# Altium footprint library PcbLib final.PcbLib: 22 footprints (part 1 of 2)
Each footprint in its own frame and in the unit in brackets; x right, y up, seen from the top. Pads: shape width x height; smd on the part's side, far side on the other; paste and mask are expansions set on the pad; w line width, h text height; cw(c..) or ccw(c..) is an arc to the next point about the centre after c.
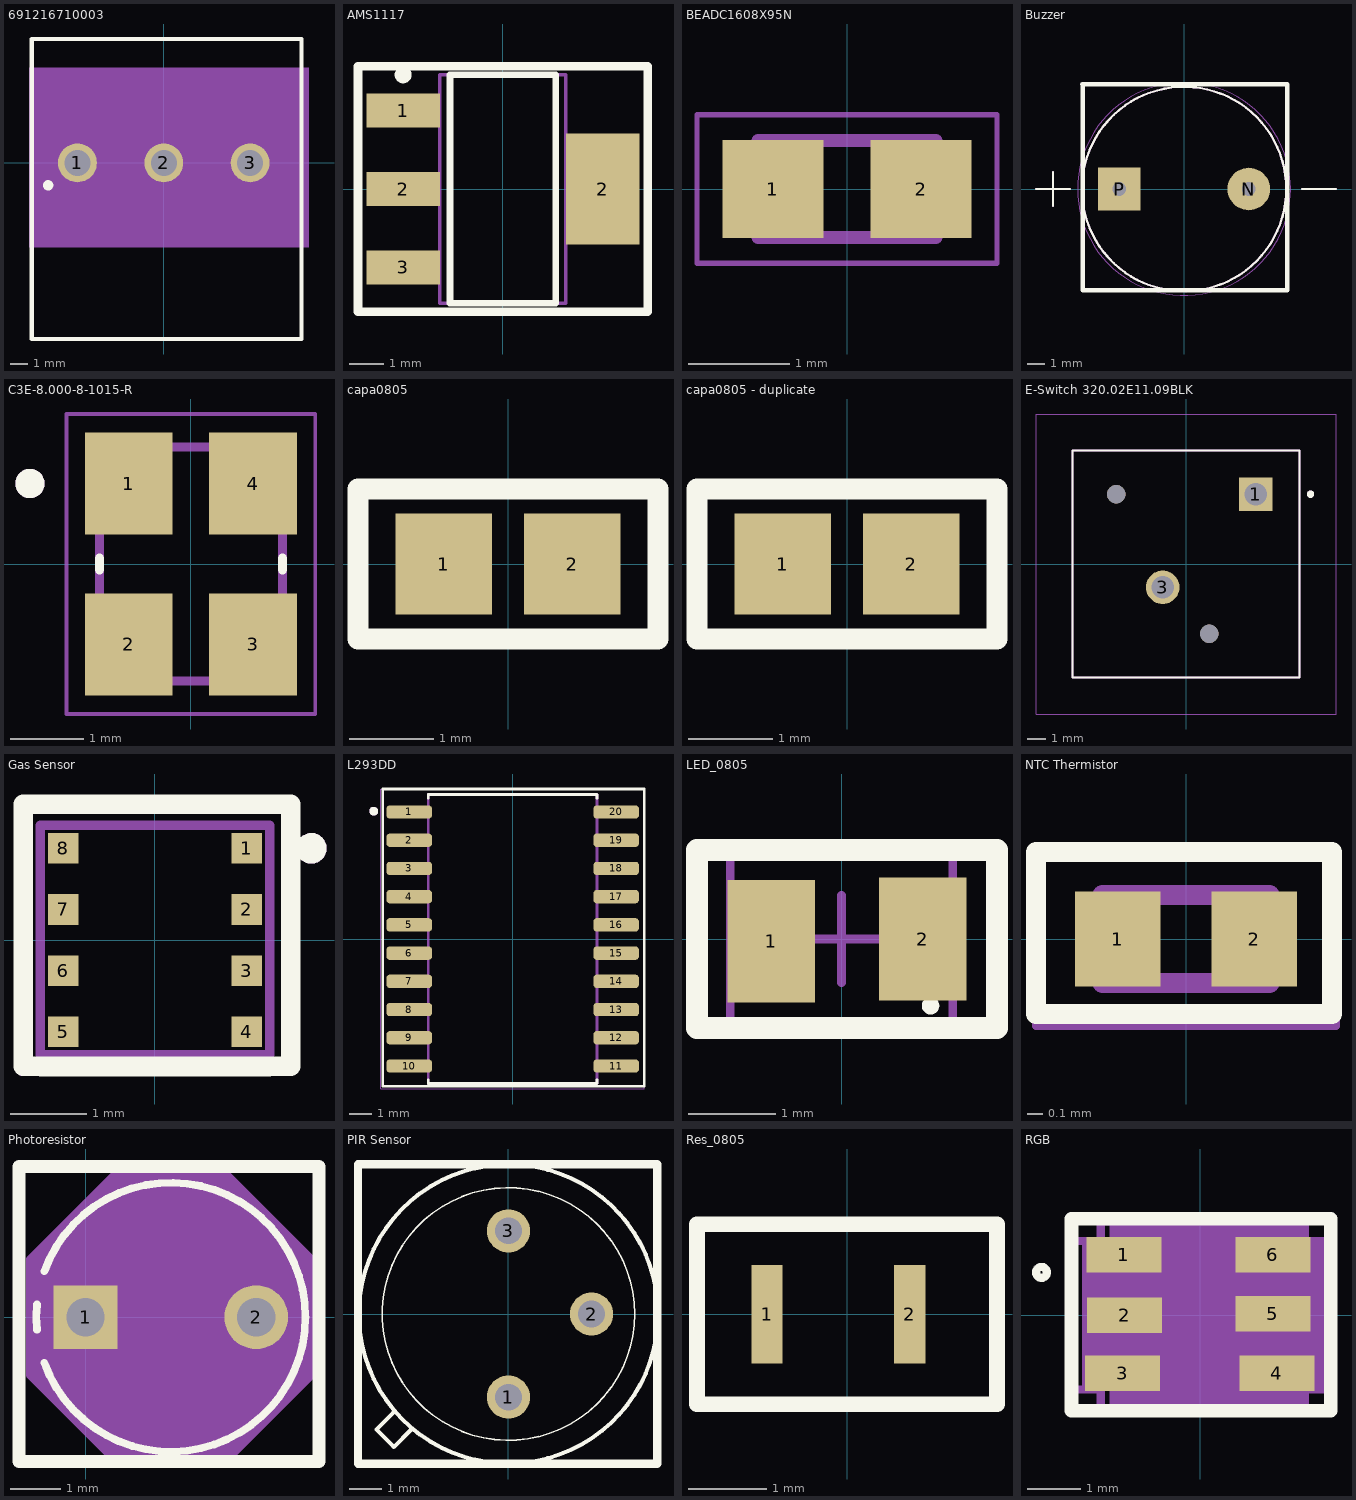
[diagram p0: the footprints below, top view; thin cyan lines are the x and y axes]

## 691216710003 [mm]
pads (3):
  round 2.25 hole 1.5: 1(-5,0) 2(0,0) 3(5,0)
Top Overlay:
  circle w0.4: c-6.7,-1.3 r0.1
  lines w0.254: -7.65,-10.2 -7.65,7.175 7.975,7.175 7.975,-9.975 7.975,-10.2 -7.65,-10.2
Mechanical 13:
  lines w0.1: 8.1,-3.555 8.1,-1.675 8.1,4.725 8.1,5.175 ; 8.1,-3.13 8.1,-4.16 8.1,-4.6 -7.5,-4.6 -7.5,4.886 -7.5,5.2 8.1,5.2
Mechanical 15:
  region: 8.4,-4.9 -7.8,-4.9 -7.8,5.5 8.4,5.5
3D body "step_temp.STEP": height 0, standoff -9.8, extent -7.9,-9.775 7.7,7.525

## AMS1117 [mm] "SOT223, 4-Leads, Body 6.50x7.00mm (avg), Pitch 2.30mm, IPC Medium Density"
height 1.8
pads (4):
  rect 2.15x1 smd: 1(-2.925,2.3) 2(-2.925,0) 3(-2.925,-2.3)
  rect 2.15x3.25 smd: 2(2.925,0)
Top Overlay:
  circle w0.25: c-2.925,3.35 r0.125
  lines w0.2: -1.55,-3.35 1.55,-3.35 1.55,3.35 -1.55,3.35 -1.55,-3.35
  lines w0.254: -4.25,-3.6 -4.25,3.6 4.25,3.6 4.25,-3.6 -4.25,-3.6
Assembly Notes:
  lines w0.1: -1.85,-3.35 1.85,-3.35 1.85,3.35 -1.85,3.35 -1.85,-3.35
  text ".Designator" at -3.302,-0.226 h1.5
Mechanical 15:
  lines w0.05: -4.25,-3.6 4.25,-3.6 4.25,3.6 -4.25,3.6 -4.25,-3.6
3D body: height 1.8, standoff 0.02, extent -1.85,-3.35 1.85,3.35

## BEADC1608X95N [mm]
pads (2):
  rect 1x0.97 smd: 1(-0.735,0) 2(0.735,0)
Mechanical 13:
  lines w0.127: -0.88,-0.48 0.88,-0.48 0.88,0.48 -0.88,0.48 -0.88,-0.48
Mechanical 15:
  lines w0.05: -1.485,-0.735 1.485,-0.735 1.485,0.735 -1.485,0.735 -1.485,-0.735

## Buzzer [mm]
height 10
pads (2):
  round 2.5 hole 0.8: N(3.8,0)
  rect 2.5x2.5 / inner round 2.5 / far side rect 2.5x2.5 hole 0.8: P(-3.8,0)
Top Overlay:
  circle w0.127: c0,0 r6
  lines w0.127: -8.69,0 -6.69,0 ; -7.69,-1 -7.69,1 ; 6.92,0 8.92,0
  lines w0.254: -5.975,6.15 6.05,6.15 6.05,-5.95 -5.95,-5.95 -5.95,6.15
Mechanical 13:
  circle w0.127: c0,0 r6
  lines w0.127: -8.69,0 -6.69,0 ; -7.69,-1 -7.69,1 ; 6.92,0 8.92,0
Mechanical 15:
  circle w0.05: c0,0 r6.25
3D body "step_temp.STEP": height 7, standoff -7, extent -6,-6 6,6

## C3E-8.000-8-1015-R [mm]
height 0.75
pads (4):
  rect 1.2x1.4 smd: 1(-0.85,1.1) 2(-0.85,-1.1) 3(0.85,-1.1) 4(0.85,1.1)
Top Overlay:
  circle w0.2: c-2.2,1.1 r0.1
  lines w0.127: -1.25,-0.08 -1.25,0.08 ; 1.25,-0.08 1.25,0.08
Mechanical 13:
  circle w0.2: c-2.2,1.1 r0.1
  lines w0.127: -1.25,-1.6 1.25,-1.6 1.25,1.6 -1.25,1.6 -1.25,-1.6
Mechanical 15:
  lines w0.05: -1.7,-2.05 1.7,-2.05 1.7,2.05 -1.7,2.05 -1.7,-2.05
3D body "step_temp.STEP": height 0.75, standoff 0, extent -1.25,-1.6 1.25,1.6

## capa0805 [mm] "Chip Capacitor, 2-Leads, Body 2.00x1.25mm, IPC Medium Density"
height 1.25
pads (2):
  rect 1.14x1.2 smd: 1(-0.762,0) 2(0.762,0)
Top Overlay:
  lines w0.254: -1.778,-0.889 -1.778,0.889 1.778,0.889 1.778,-0.889 -1.778,-0.889
Assembly Notes:
  lines w0.1: -1.778,-0.889 -0.794,-0.889 0.921,-0.889 1.778,-0.889 1.778,-0.452 1.778,0.167 1.778,0.476 1.778,0.889 0.889,0.889 -0.889,0.889 -1.778,0.889 -1.778,-0.889
  text ".Designator" at -1.5,-0.019 h0.3
3D body: height 1.25, standoff 0, extent -1,-0.625 -0.5,0.625
3D body: height 1.25, standoff 0, extent -0.635,-0.635 0.365,0.615
3D body: height 1.25, standoff 0, extent 0.258,-0.625 0.758,0.625

## capa0805 - duplicate [mm] "Chip Capacitor, 2-Leads, Body 2.00x1.25mm, IPC Medium Density"
height 1.25
pads (2):
  rect 1.14x1.2 smd: 1(-0.762,0) 2(0.762,0)
Top Overlay:
  lines w0.254: -1.778,-0.889 -1.778,0.889 1.778,0.889 1.778,-0.889 -1.778,-0.889
Assembly Notes:
  lines w0.1: -1.778,-0.889 -0.794,-0.889 0.921,-0.889 1.778,-0.889 1.778,-0.452 1.778,0.167 1.778,0.476 1.778,0.889 0.889,0.889 -0.889,0.889 -1.778,0.889 -1.778,-0.889
  text ".Designator" at -1.5,-0.019 h0.3
3D body: height 1.25, standoff 0, extent -1,-0.625 -0.5,0.625
3D body: height 1.25, standoff 0, extent -0.635,-0.635 0.365,0.615
3D body: height 1.25, standoff 0, extent 0.258,-0.625 0.758,0.625

## E-Switch 320.02E11.09BLK [mm]
height 15.6
pads (4):
  rect 1.83x1.83 / inner round 1.83 / far side rect 1.83x1.83 hole 1.22 mask+0.102: 1(3.81,3.81)
  round 1.83 hole 1.22 mask+0.102: 3(-1.27,-1.27)
  round 1 hole 1 unplated mask+0: ""(-3.81,3.81) ""(1.27,-3.81)
Top Overlay:
  circle w0.2: c6.8,3.81 r0.1
  lines w0.127: -6.2,-6.2 -6.2,6.2 6.2,6.2 6.2,-6.2 -6.2,-6.2
Mechanical 13:
  circle w0.2: c6.8,3.81 r0.1
  lines w0.127: -6.2,-6.2 -6.2,6.2 6.2,6.2 6.2,-6.2 -6.2,-6.2
Mechanical 15:
  lines w0.05: -8.19,-8.19 -8.19,8.19 8.19,8.19 8.19,-8.19 -8.19,-8.19
3D body "step_temp.STEP": height 14.56, standoff -5.27, extent -7.938,-7.934 7.938,7.934

## Gas Sensor [mm]
pads (8):
  rect 0.4x0.4 smd: 1(1.2,1.2) 2(1.2,0.4) 3(1.2,-0.4) 4(1.2,-1.2) 5(-1.2,-1.2) 6(-1.2,-0.4) 7(-1.2,0.4) 8(-1.2,1.2)
Top Overlay:
  circle w0.2: c2.045,1.2 r0.1
  lines w0.127: -1.778,1.778 1.222,1.778 ; -1.5,-1.72 1.5,-1.72
  lines w0.254: -1.725,-1.651 -1.725,1.778 1.222,1.778 1.778,1.778 1.778,-1.651 -1.725,-1.651
Mechanical 13:
  circle w0.2: c2.045,1.2 r0.1
  lines w0.127: -1.5,-1.5 -1.5,1.5 1.5,1.5 1.5,-1.5 -1.5,-1.5
Mechanical 15:
  lines w0.05: -1.75,-1.75 1.75,-1.75 1.75,1.75 -1.75,1.75 -1.75,-1.75

## L293DD [mm]
pads (20):
  rrect50% 2.05x0.6 smd: 1(-4.655,5.715) 2(-4.655,4.445) 3(-4.655,3.175) 4(-4.655,1.905) 5(-4.655,0.635) 6(-4.655,-0.635) 7(-4.655,-1.905) 8(-4.655,-3.175) 9(-4.655,-4.445) 10(-4.655,-5.715) 11(4.655,-5.715) 12(4.655,-4.445) 13(4.655,-3.175) 14(4.655,-1.905) 15(4.655,-0.635) 16(4.655,0.635) 17(4.655,1.905) 18(4.655,3.175) 19(4.655,4.445) 20(4.655,5.715)
Top Overlay:
  circle w0.2: c-6.25,5.75 r0.1
  lines w0.127: -3.8,-6.33 -3.8,-6.5 3.8,-6.5 3.8,-6.33 ; -3.8,6.33 -3.8,6.5 3.8,6.5 3.8,6.33 ; -5.85,-6.625 -5.85,6.75 5.925,6.75 5.925,-6.625 -5.85,-6.625
Mechanical 13:
  circle w0.2: c-6.25,5.75 r0.1
  lines w0.127: -3.8,-6.5 3.8,-6.5 3.8,6.5 -3.8,6.5 -3.8,-6.5
Mechanical 15:
  lines w0.05: -5.93,-6.75 5.93,-6.75 5.93,6.75 -5.93,6.75 -5.93,-6.75
3D body "step_temp.STEP": height 2.65, standoff 0, extent -5.162,-6.4 5.162,6.4

## LED_0805 [mm] "Chip Diode, 2-Leads, Body 2.00x1.20mm, IPC Medium Density"
height 0.85
pads (2):
  rect 1x1.4 smd: 1(-0.8,-0.025) 2(0.925,0)
Top Overlay:
  circle w0.1: c1.016,-0.762 r0.05
  lines w0.254: -1.65,-1.016 -1.65,1.016 1.775,1.016 1.775,-1.016 -1.65,-1.016
Assembly Notes:
  lines w0.1: -1.27,-1.016 1.27,-1.016 1.27,0.074 1.27,0.342 1.27,1.016 0.5,1.016 -0.5,1.016 -1.27,1.016 -1.27,0.238 -1.27,-0.238 -1.27,-1.016
  text ".Designator" at -0.966,-0.01 h0.2
Mechanical 15:
  lines w0.1: -0.5,0 0.5,0 ; 0,-0.5 0,0.5
3D body: height 0.85, standoff 0, extent 0.6,-0.6 1,0.6
3D body: height 0.85, standoff 0, extent -0.6,-0.6 0.6,0.6
3D body: height 0.85, standoff 0, extent -1,-0.6 -0.6,0.6

## NTC Thermistor [mm]
pads (2):
  rect 0.54x0.6 smd: 1(-0.432,0) 2(0.432,0)
Top Overlay:
  lines w0.127: -0.95,-0.475 0.925,-0.475 0.925,0.55 -0.95,0.55 -0.95,-0.475
Mechanical 13:
  lines w0.127: -0.53,-0.28 -0.53,0.28 0.53,0.28 0.53,-0.28 -0.53,-0.28
Mechanical 15:
  lines w0.05: -0.95,-0.55 -0.95,0.55 0.95,0.55 0.95,-0.55 -0.95,-0.55
3D body "step_temp.STEP": height 0.55, standoff 0, extent -0.5,-0.25 0.5,0.25

## Photoresistor [mil]
pads (2):
  rect 50x50 / inner round 60 / far side rect 50x50 hole 30 paste-99999 mask+0: 1(0,0)
  round 50 / inner round 60 / far side round 50 hole 30 paste-99999 mask+0: 2(133.86,0)
Top Overlay:
  lines w6: -38.1,-9.96 cw(c66.93,0) -38.1,9.96 ; -32.28,-35.89 ccw(c66.93,0) 172.43,0 ccw(c66.93,0) -32.28,35.89
  lines w10: -52.17,-113.19 183.07,-113.19 183.07,118.11 -52.17,118.11 -52.17,63.98 -52.17,-113.19
Mechanical 13:
  circle w0: c66.93,0 r100.5
Mechanical 15:
  region: -43.57,45.5 21.43,110.5 112.43,110.5 177.43,45.5 177.43,-45.5 112.43,-110.5 21.43,-110.5 -43.57,-45.5
  lines w6: -43.57,-45.5 21.43,-110.5 112.43,-110.5 177.43,-45.5 177.43,45.5 112.43,110.5 21.43,110.5 -43.57,45.5 -43.57,-45.5
3D body "LED_GL552810-20_JCH.step": height 94.61, standoff -160, extent -33.96,-100.5 167.43,100.5

## PIR Sensor [mil]
pads (3):
  round 52 hole 32: 1(0,-100) 2(100,0) 3(0,100)
Top Overlay:
  circle w2: c0,0 r152
  circle w5: c0,0 r180
  lines w5: -138,-118 -159,-139 -138,-160 -117,-139
  lines w10: -181.1,-180.12 179.13,-180.12 179.13,180.12 -181.1,180.12 -181.1,-180.12
3D body "step_temp.STEP": height 185.04, standoff -570.87, extent -181.09,-181.1 181.1,181.1

## Res_0805 [mm] "Chip Resistor, 2-Leads, Body 2.00x1.25mm, IPC Medium Density"
height 0.5
pads (2):
  rect 0.4x1.25 smd: 1(-1.016,0) 2(0.8,0)
Top Overlay:
  lines w0.2: -1.905,-1.143 1.905,-1.143 1.905,1.143 -1.905,1.143 -1.905,-1.143
Assembly Notes:
  lines w0.1: 1.905,1.143 1.095,1.143 -0.19,1.143 -1.905,1.143 -1.905,-1.143 1.905,-1.143 1.905,0.254 1.905,1.148
  text ".Designator" at -1.805,-0.037 h0.35
3D body: height 0.5, standoff 0, extent -1,-0.625 -0.6,0.625
3D body: height 0.5, standoff 0, extent -0.6,-0.625 0.6,0.625
3D body: height 0.5, standoff 0, extent 0.6,-0.625 1,0.625

## RGB [mil]
pads (6):
  rect 55x26 smd paste+0 mask+0: 1(-56.1,44.29) 2(-55.5,0) 3(-57.09,-42.32) 4(56.1,-42.32) 5(53.15,0.98) 6(53.15,44.29)
Top Overlay:
  circle w6: c-116.5,31.5 r4
  lines w10: -75.79,70.87 -94.49,70.87 -94.49,-69.88 -75.79,-69.88 95.47,-69.88 95.47,-55.12 95.47,70.87 73.82,70.87 -74.8,70.87
  text ".Designator" at -105.31,0 h20
Mechanical 13:
  circle w1: c-28,31.5 r3
  lines w1: -12,59 ccw(c0,59) 12,59 ; -63,-59 63,-59 63,59 -63,59 -63,-59
Mechanical 15:
  region: -66.59,-53.52 -86.59,-53.52 -86.59,55.48 -66.59,55.48 -66.59,69.98 79.41,69.98 79.41,55.48 99.41,55.48 99.41,-53.52 79.41,-53.52 79.41,-68.02 -66.59,-68.02
  lines w6: -93,-54.5 -93,54.5 -73,54.5 -73,69 73,69 73,54.5 93,54.5 93,-54.5 73,-54.5 73,-69 -73,-69 -73,-54.5 -93,-54.5
3D body "ASMT-YTD7-0AA02_BRA.step": height 79.09, standoff 0, extent -70.98,-59.02 70.98,59.02